# EAGLE library part 3X4 (library 3x4_0.1in_header)
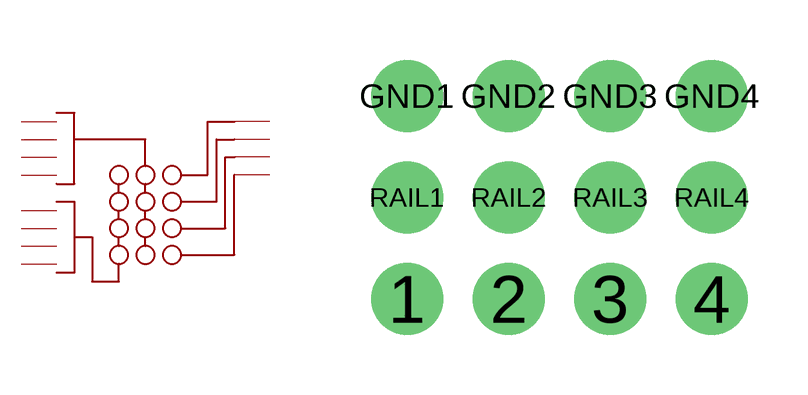
[diagram p0: symbol with the pads of 3X4; footprint 3X4]

Designator prefix -

## 3X4  [3X4]
1  1
2  2
3  3
4  4
GND1  GND1
GND2  GND2
GND3  GND3
GND4  GND4
RAIL1  PWR1
RAIL2  PWR2
RAIL3  PWR3
RAIL4  PWR4

## Footprint 3X4 (pad centres in mm)
drill 1.2 round: 1 0,0; 2 2.54,0; 3 5.08,0; 4 7.62,0; GND1 0,5.08; GND2 2.54,5.08; GND3 5.08,5.08; GND4 7.62,5.08; RAIL1 0,2.54; RAIL2 2.54,2.54; RAIL3 5.08,2.54; RAIL4 7.62,2.54